# Altium integrated library ECS-400-10-37B2-CKY-TR.IntLib: 1 symbol
Pins are listed as number, name and electrical type; pins without a type are passive.

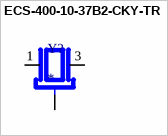
[diagram p0: symbol ECS-400-10-37B2-CKY-TR]

## ECS-400-10-37B2-CKY-TR
designator Y?
MP: ECS-400-10-37B2-CKY-TR; Package: None; Price: None; Value: *; Availability: Unavailable
footprint XTAL_ECS-400-10-37B2-CKY-TR
pins: 1 IN/OUT, 2 GND (power), 3 OUT/IN, 4 GND (power)